# EAGLE library part T13F256 (library EfinixTrio)
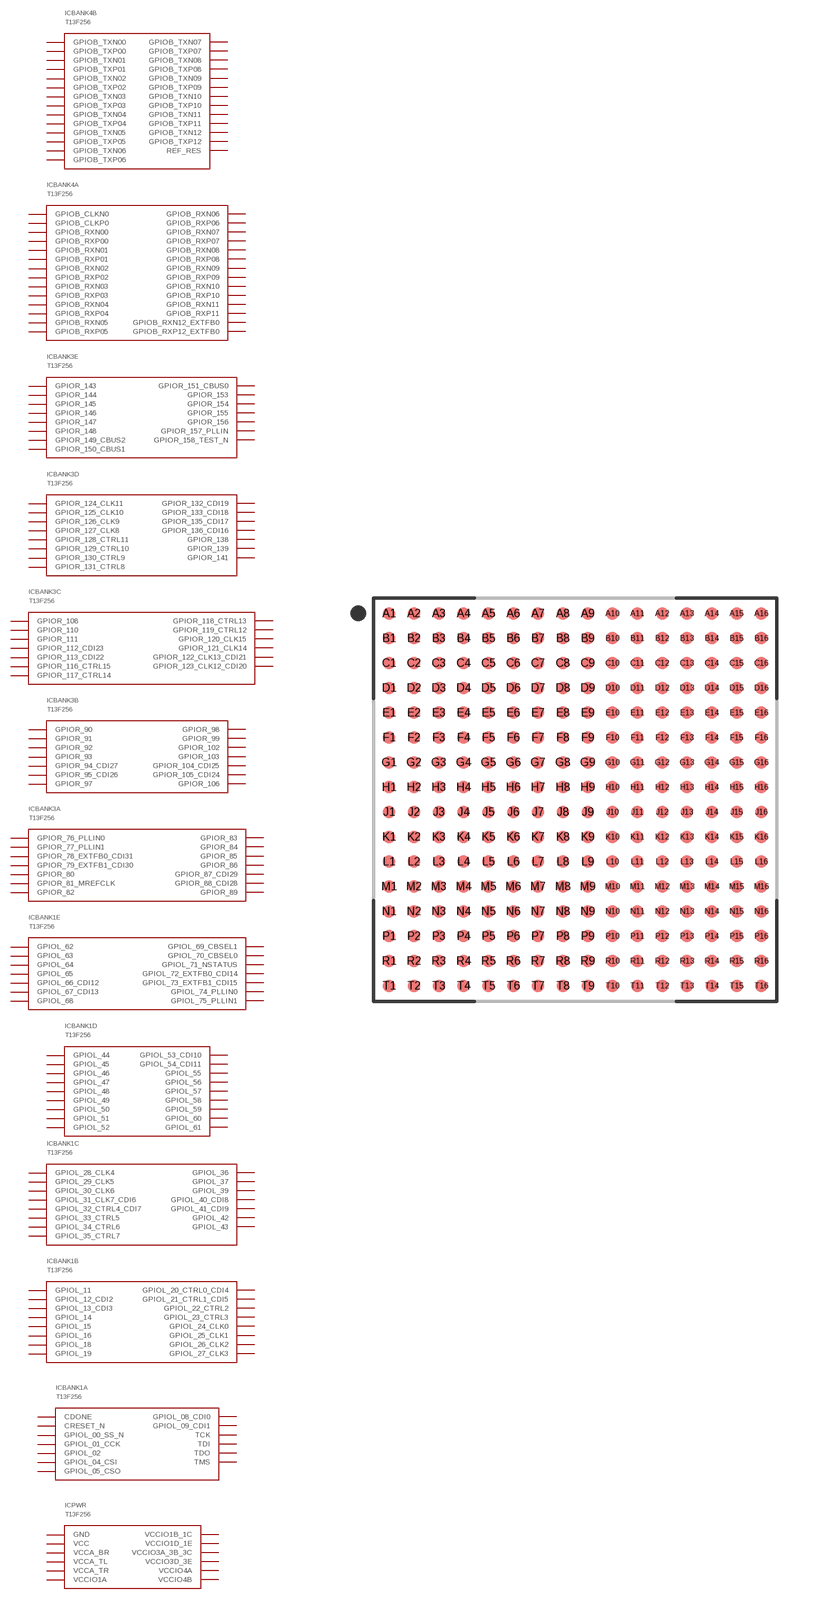
[diagram p3: symbol with the pads of FBGA256; footprint FBGA256]

Designator prefix IC; gates PWR=T13F256PWR BANK1A=T13F256BANK1A BANK1B=T13F256BANK1B BANK1C=T13F256BANK1C BANK1D=T13F256BANK1D BANK1E=T13F256BANK1E BANK3A=T13F256BANK3A BANK3B=T13F256BANK3B BANK3C=T13F256BANK3C BANK3D=T13F256BANK3D BANK3E=T13F256BANK3E BANK4A=T13F256BANK4A BANK4B=T13F256BANK4B

## T13F256  [FBGA256]
A1  PWR:GND  pwr
A2  BANK1D:GPIOL_50
A3  BANK1D:GPIOL_57
A4  BANK1D:GPIOL_59
A5  PWR:GND  pwr
A6  BANK1E:GPIOL_65
A7  BANK1E:GPIOL_62
A8  BANK1E:GPIOL_66_CDI12
A9  BANK3A:GPIOR_78_EXTFB0_CDI31
A10  BANK3A:GPIOR_79_EXTFB1_CDI30
A11  BANK3A:GPIOR_84
A12  PWR:GND  pwr
A13  BANK3B:GPIOR_95_CDI26
A14  BANK3B:GPIOR_90
A15  BANK3B:GPIOR_94_CDI27
A16  PWR:GND  pwr
B1  BANK1D:GPIOL_44
B2  BANK1D:GPIOL_45
B3  BANK1D:GPIOL_52
B4  BANK1D:GPIOL_53_CDI10
B5  BANK1D:GPIOL_61
B6  BANK1E:GPIOL_64
B7  BANK1E:GPIOL_63
B8  BANK1E:GPIOL_71_NSTATUS
B9  BANK3A:GPIOR_80
B10  BANK3A:GPIOR_82
B11  BANK3A:GPIOR_83
B12  BANK3B:GPIOR_93
B13  BANK3B:GPIOR_97
B14  BANK3B:GPIOR_92
B15  BANK3B:GPIOR_98
B16  BANK3B:GPIOR_106
C1  BANK1C:GPIOL_33_CTRL5
C2  BANK1C:GPIOL_41_CDI9
C3  BANK1D:GPIOL_48
C4  BANK1D:GPIOL_51
C5  BANK1E:GPIOL_67_CDI13
C6  BANK1D:GPIOL_58
C7  BANK1E:GPIOL_70_CBSEL0
C8  BANK1E:GPIOL_72_EXTFB0_CDI14
C9  BANK3A:GPIOR_76_PLLIN0
C10  BANK3A:GPIOR_81_MREFCLK
C11  BANK3A:GPIOR_86
C12  BANK3A:GPIOR_85
C13  BANK3B:GPIOR_99
C14  BANK3B:GPIOR_102
C15  BANK3C:GPIOR_112_CDI23
C16  BANK3C:GPIOR_108
D1  BANK1C:GPIOL_36
D2  PWR:GND  pwr
D3  BANK1D:GPIOL_46
D4  BANK1D:GPIOL_47
D5  BANK1D:GPIOL_49
D6  BANK1D:GPIOL_54_CDI11
D7  BANK1E:GPIOL_69_CBSEL1
D8  BANK1E:GPIOL_73_EXTFB1_CDI15
D9  BANK1E:GPIOL_74_PLLIN0
D10  BANK3A:GPIOR_77_PLLIN1
D11  BANK3A:GPIOR_87_CDI29
D12  BANK3A:GPIOR_89
D13  BANK3B:GPIOR_103
D14  BANK3B:GPIOR_104_CDI25
D15  PWR:GND  pwr
D16  BANK3C:GPIOR_116_CTRL15
E1  BANK1C:GPIOL_37
E2  BANK1C:GPIOL_34_CTRL6
E3  BANK1C:GPIOL_39
E4  BANK1D:GPIOL_55
E5  BANK1D:GPIOL_60
E6  BANK1D:GPIOL_56
E7  BANK1E:GPIOL_68
E8  BANK1E:GPIOL_75_PLLIN1
E9  PWR:VCC  pwr
E10  PWR:VCCIO3A_3B_3C  pwr
E11  BANK3A:GPIOR_88_CDI28
E12  BANK3B:GPIOR_91
E13  BANK3B:GPIOR_105_CDI24
E14  BANK3C:GPIOR_110
E15  BANK3C:GPIOR_120_CLK15
E16  BANK3C:GPIOR_119_CTRL12
F1  BANK1C:GPIOL_30_CLK6
F2  BANK1C:GPIOL_32_CTRL4_CDI7
F3  BANK1C:GPIOL_35_CTRL7
F4  BANK1C:GPIOL_43
F5  BANK1C:GPIOL_40_CDI8
F6  PWR:VCCIO1D_1E  pwr
F7  PWR:VCCA_TL  pwr
F8  PWR:VCC  pwr
F9  PWR:VCC  pwr
F10  PWR:VCCIO3A_3B_3C  pwr
F11  PWR:VCCIO3A_3B_3C  pwr
F12  BANK3C:GPIOR_111
F13  BANK3C:GPIOR_113_CDI22
F14  BANK3C:GPIOR_118_CTRL13
F15  BANK3C:GPIOR_122_CLK13_CDI21
F16  BANK3C:GPIOR_123_CLK12_CDI20
G1  BANK1C:GPIOL_31_CLK7_CDI6
G2  BANK1C:GPIOL_29_CLK5
G3  BANK1B:GPIOL_27_CLK3
G4  BANK1C:GPIOL_42
G5  BANK1C:GPIOL_28_CLK4
G6  PWR:VCCIO1D_1E  pwr
G7  PWR:GND  pwr
G8  PWR:GND  pwr
G9  PWR:GND  pwr
G10  PWR:GND  pwr
G11  PWR:VCCA_TR  pwr
G12  BANK3C:GPIOR_121_CLK14
G13  BANK3C:GPIOR_117_CTRL14
G14  BANK3D:GPIOR_127_CLK8
G15  BANK3D:GPIOR_124_CLK11
G16  BANK3D:GPIOR_126_CLK9
H1  BANK1B:GPIOL_22_CTRL2
H2  BANK1B:GPIOL_25_CLK1
H3  BANK1B:GPIOL_24_CLK0
H4  BANK1B:GPIOL_26_CLK2
H5  BANK1B:GPIOL_21_CTRL1_CDI5
H6  PWR:VCCIO1B_1C  pwr
H7  PWR:VCCIO1B_1C  pwr
H8  PWR:GND  pwr
H9  PWR:GND  pwr
H10  PWR:GND  pwr
H11  PWR:GND  pwr
H12  BANK3D:GPIOR_139
H13  BANK3D:GPIOR_125_CLK10
H14  BANK3D:GPIOR_128_CTRL11
H15  BANK3D:GPIOR_129_CTRL10
H16  BANK3D:GPIOR_130_CTRL9
J1  PWR:GND  pwr
J2  BANK1B:GPIOL_20_CTRL0_CDI4
J3  BANK1B:GPIOL_16
J4  BANK1B:GPIOL_14
J5  BANK1B:GPIOL_11
J6  PWR:VCC  pwr
J7  PWR:VCC  pwr
J8  PWR:GND  pwr
J9  PWR:GND  pwr
J10  PWR:VCCIO3D_3E  pwr
J11  PWR:VCCIO3D_3E  pwr
J12  BANK3D:GPIOR_141
J13  BANK3D:GPIOR_133_CDI18
J14  BANK3D:GPIOR_135_CDI17
J15  BANK3D:GPIOR_131_CTRL8
J16  PWR:GND  pwr
K1  BANK1B:GPIOL_18
K2  BANK1B:GPIOL_19
K3  BANK1B:GPIOL_15
K4  BANK1B:GPIOL_12_CDI2
K5  BANK1A:TDI
K6  PWR:VCCIO1A  pwr
K7  PWR:GND  pwr
K8  PWR:GND  pwr
K9  PWR:VCC  pwr
K10  PWR:GND  pwr
K11  PWR:VCCA_BR  pwr
K12  BANK3E:GPIOR_148
K13  BANK3E:GPIOR_151_CBUS0
K14  BANK3D:GPIOR_138
K15  BANK3D:GPIOR_136_CDI16
K16  BANK3D:GPIOR_132_CDI19
L1  BANK1B:GPIOL_23_CTRL3
L2  BANK1B:GPIOL_13_CDI3
L3  BANK1A:GPIOL_08_CDI0
L4  BANK1A:GPIOL_05_CSO
L5  BANK1A:TDO
L6  PWR:VCCIO4B  pwr
L7  PWR:VCCIO4B  pwr
L8  PWR:GND  pwr
L9  PWR:GND  pwr
L10  PWR:VCCIO4A  pwr
L11  PWR:VCCIO4A  pwr
L12  BANK3E:GPIOR_158_TEST_N
L13  BANK3E:GPIOR_157_PLLIN
L14  BANK3E:GPIOR_150_CBUS1
L15  BANK3E:GPIOR_147
L16  BANK3E:GPIOR_143
M1  BANK1A:TMS
M2  BANK1A:TCK
M3  BANK1A:GPIOL_01_CCK
M4  BANK4B:GPIOB_TXP00
M5  BANK4B:GPIOB_TXN00
M6  BANK4B:GPIOB_TXP05
M7  BANK4B:GPIOB_TXN05
M8  BANK4B:GPIOB_TXP11
M9  BANK4A:GPIOB_RXN01
M10  BANK4A:GPIOB_RXP05
M11  BANK4A:GPIOB_RXN05
M12  BANK4A:GPIOB_CLKP0
M13  BANK4A:GPIOB_CLKN0
M14  BANK3E:GPIOR_156
M15  BANK3E:GPIOR_144
M16  BANK3E:GPIOR_145
N1  BANK1A:GPIOL_09_CDI1
N2  PWR:GND  pwr
N3  BANK1A:GPIOL_04_CSI
N4  BANK4B:GPIOB_TXP01
N5  BANK4B:GPIOB_TXP04
N6  BANK4B:GPIOB_TXP06
N7  BANK4B:GPIOB_TXP09
N8  BANK4B:GPIOB_TXN11
N9  BANK4A:GPIOB_RXP01
N10  BANK4A:GPIOB_RXN03
N11  BANK4A:GPIOB_RXP06
N12  BANK4A:GPIOB_RXN10
N13  BANK4A:GPIOB_RXN12_EXTFB0
N14  BANK3E:GPIOR_153
N15  PWR:GND  pwr
N16  BANK3E:GPIOR_154
P1  BANK1A:CRESET_N
P2  BANK1A:GPIOL_02
P3  BANK1A:GPIOL_00_SS_N
P4  BANK4B:GPIOB_TXN01
P5  BANK4B:GPIOB_TXN04
P6  BANK4B:GPIOB_TXN06
P7  BANK4B:GPIOB_TXN09
P8  BANK4B:GPIOB_TXN12
P9  BANK4A:GPIOB_RXP00
P10  BANK4A:GPIOB_RXP03
P11  BANK4A:GPIOB_RXN06
P12  BANK4A:GPIOB_RXP10
P13  BANK4A:GPIOB_RXN08
P14  BANK4A:GPIOB_RXP12_EXTFB0
P15  BANK3E:GPIOR_155
P16  BANK3E:GPIOR_146
R1  BANK1A:CDONE
R2  BANK4B:REF_RES
R3  BANK4B:GPIOB_TXP02
R4  BANK4B:GPIOB_TXN02
R5  BANK4B:GPIOB_TXP07
R6  BANK4B:GPIOB_TXP08
R7  PWR:GND  pwr
R8  BANK4B:GPIOB_TXP12
R9  BANK4A:GPIOB_RXN00
R10  PWR:GND  pwr
R11  BANK4A:GPIOB_RXN04
R12  BANK4A:GPIOB_RXN07
R13  BANK4A:GPIOB_RXP08
R14  BANK4A:GPIOB_RXN09
R15  BANK4A:GPIOB_RXN11
R16  BANK3E:GPIOR_149_CBUS2
T1  PWR:GND  pwr
T2  BANK4B:GPIOB_TXP03
T3  BANK4B:GPIOB_TXN03
T4  PWR:GND  pwr
T5  BANK4B:GPIOB_TXN07
T6  BANK4B:GPIOB_TXN08
T7  BANK4B:GPIOB_TXN10
T8  BANK4B:GPIOB_TXP10
T9  BANK4A:GPIOB_RXP02
T10  BANK4A:GPIOB_RXN02
T11  BANK4A:GPIOB_RXP04
T12  BANK4A:GPIOB_RXP07
T13  PWR:GND  pwr
T14  BANK4A:GPIOB_RXP09
T15  BANK4A:GPIOB_RXP11
T16  PWR:GND  pwr

## Footprint FBGA256 (pad centres in mm)
256-BGA, collapsing, 0.80 mm pitch, 13.00 X 13.00 X 1.10 mm body 256-pin collapsing BGA package with 0.80 mm col pitch and 0.80 mm row pitch with body size 13.00 X 13.00 X 1.10 mm
smd 0.4 x 0.4: A1 -6,6; A2 -5.2,6; A3 -4.4,6; A4 -3.6,6; A5 -2.8,6; A6 -2,6; A7 -1.2,6; A8 -0.4,6; A9 0.4,6; A10 1.2,6; A11 2,6; A12 2.8,6; A13 3.6,6; A14 4.4,6; A15 5.2,6; A16 6,6; B1 -6,5.2; B2 -5.2,5.2; B3 -4.4,5.2; B4 -3.6,5.2; B5 -2.8,5.2; B6 -2,5.2; B7 -1.2,5.2; B8 -0.4,5.2; B9 0.4,5.2; B10 1.2,5.2; B11 2,5.2; B12 2.8,5.2; B13 3.6,5.2; B14 4.4,5.2; B15 5.2,5.2; B16 6,5.2; C1 -6,4.4; C2 -5.2,4.4; C3 -4.4,4.4; C4 -3.6,4.4; C5 -2.8,4.4; C6 -2,4.4; C7 -1.2,4.4; C8 -0.4,4.4; C9 0.4,4.4; C10 1.2,4.4; C11 2,4.4; C12 2.8,4.4; C13 3.6,4.4; C14 4.4,4.4; C15 5.2,4.4; C16 6,4.4; D1 -6,3.6; D2 -5.2,3.6; D3 -4.4,3.6; D4 -3.6,3.6; D5 -2.8,3.6; D6 -2,3.6; D7 -1.2,3.6; D8 -0.4,3.6; D9 0.4,3.6; D10 1.2,3.6; D11 2,3.6; D12 2.8,3.6; D13 3.6,3.6; D14 4.4,3.6; D15 5.2,3.6; D16 6,3.6; E1 -6,2.8; E2 -5.2,2.8; E3 -4.4,2.8; E4 -3.6,2.8; E5 -2.8,2.8; E6 -2,2.8; E7 -1.2,2.8; E8 -0.4,2.8; E9 0.4,2.8; E10 1.2,2.8; E11 2,2.8; E12 2.8,2.8; E13 3.6,2.8; E14 4.4,2.8; E15 5.2,2.8; E16 6,2.8; F1 -6,2; F2 -5.2,2; F3 -4.4,2; F4 -3.6,2; F5 -2.8,2; F6 -2,2; F7 -1.2,2; F8 -0.4,2; F9 0.4,2; F10 1.2,2; F11 2,2; F12 2.8,2; F13 3.6,2; F14 4.4,2; F15 5.2,2; F16 6,2; G1 -6,1.2; G2 -5.2,1.2; G3 -4.4,1.2; G4 -3.6,1.2; G5 -2.8,1.2; G6 -2,1.2; G7 -1.2,1.2; G8 -0.4,1.2; G9 0.4,1.2; G10 1.2,1.2; G11 2,1.2; G12 2.8,1.2; G13 3.6,1.2; G14 4.4,1.2; G15 5.2,1.2; G16 6,1.2; H1 -6,0.4; H2 -5.2,0.4; H3 -4.4,0.4; H4 -3.6,0.4; H5 -2.8,0.4; H6 -2,0.4; H7 -1.2,0.4; H8 -0.4,0.4; H9 0.4,0.4; H10 1.2,0.4; H11 2,0.4; H12 2.8,0.4; H13 3.6,0.4; H14 4.4,0.4; H15 5.2,0.4; H16 6,0.4; J1 -6,-0.4; J2 -5.2,-0.4; J3 -4.4,-0.4; J4 -3.6,-0.4; J5 -2.8,-0.4; J6 -2,-0.4; J7 -1.2,-0.4; J8 -0.4,-0.4; J9 0.4,-0.4; J10 1.2,-0.4; J11 2,-0.4; J12 2.8,-0.4; J13 3.6,-0.4; J14 4.4,-0.4; J15 5.2,-0.4; J16 6,-0.4; K1 -6,-1.2; K2 -5.2,-1.2; K3 -4.4,-1.2; K4 -3.6,-1.2; K5 -2.8,-1.2; K6 -2,-1.2; K7 -1.2,-1.2; K8 -0.4,-1.2; K9 0.4,-1.2; K10 1.2,-1.2; K11 2,-1.2; K12 2.8,-1.2; K13 3.6,-1.2; K14 4.4,-1.2; K15 5.2,-1.2; K16 6,-1.2; L1 -6,-2; L2 -5.2,-2; L3 -4.4,-2; L4 -3.6,-2; L5 -2.8,-2; L6 -2,-2; L7 -1.2,-2; L8 -0.4,-2; L9 0.4,-2; L10 1.2,-2; L11 2,-2; L12 2.8,-2; L13 3.6,-2; L14 4.4,-2; L15 5.2,-2; L16 6,-2; M1 -6,-2.8; M2 -5.2,-2.8; M3 -4.4,-2.8; M4 -3.6,-2.8; M5 -2.8,-2.8; M6 -2,-2.8; M7 -1.2,-2.8; M8 -0.4,-2.8; M9 0.4,-2.8; M10 1.2,-2.8; M11 2,-2.8; M12 2.8,-2.8; M13 3.6,-2.8; M14 4.4,-2.8; M15 5.2,-2.8; M16 6,-2.8; N1 -6,-3.6; N2 -5.2,-3.6; N3 -4.4,-3.6; N4 -3.6,-3.6; N5 -2.8,-3.6; N6 -2,-3.6; N7 -1.2,-3.6; N8 -0.4,-3.6; N9 0.4,-3.6; N10 1.2,-3.6; N11 2,-3.6; N12 2.8,-3.6; N13 3.6,-3.6; N14 4.4,-3.6; N15 5.2,-3.6; N16 6,-3.6; P1 -6,-4.4; P2 -5.2,-4.4; P3 -4.4,-4.4; P4 -3.6,-4.4; P5 -2.8,-4.4; P6 -2,-4.4; P7 -1.2,-4.4; P8 -0.4,-4.4; P9 0.4,-4.4; P10 1.2,-4.4; P11 2,-4.4; P12 2.8,-4.4; P13 3.6,-4.4; P14 4.4,-4.4; P15 5.2,-4.4; P16 6,-4.4; R1 -6,-5.2; R2 -5.2,-5.2; R3 -4.4,-5.2; R4 -3.6,-5.2; R5 -2.8,-5.2; R6 -2,-5.2; R7 -1.2,-5.2; R8 -0.4,-5.2; R9 0.4,-5.2; R10 1.2,-5.2; R11 2,-5.2; R12 2.8,-5.2; R13 3.6,-5.2; R14 4.4,-5.2; R15 5.2,-5.2; R16 6,-5.2; T1 -6,-6; T2 -5.2,-6; T3 -4.4,-6; T4 -3.6,-6; T5 -2.8,-6; T6 -2,-6; T7 -1.2,-6; T8 -0.4,-6; T9 0.4,-6; T10 1.2,-6; T11 2,-6; T12 2.8,-6; T13 3.6,-6; T14 4.4,-6; T15 5.2,-6; T16 6,-6